# Altium footprint library SCMR22L105SRBB0.PcbLib: 1 footprints
Each footprint in its own frame and in the unit in brackets; x right, y up, seen from the top. Pads: shape width x height; smd on the part's side, far side on the other; paste and mask are expansions set on the pad; w line width, h text height; cw(c..) or ccw(c..) is an arc to the next point about the centre after c.
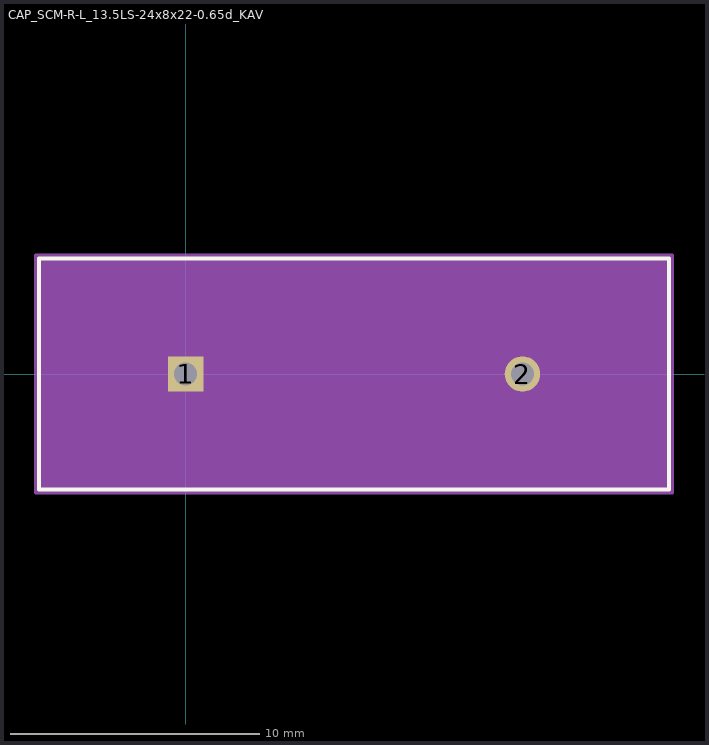
[diagram p0: the footprint, top view; thin cyan lines are the x and y axes]

## CAP_SCM-R-L_13.5LS-24x8x22-0.65d_KAV [mil]
pads (2):
  rect 56x56 / inner round 60 / far side rect 56x56 hole 36 paste-28 mask+0: 1(0,0)
  round 56 / inner round 60 / far side round 56 hole 36 paste-28 mask+0: 2(531.5,0)
Top Overlay:
  lines w6: -231.25,-182 762.75,-182 762.75,182 -231.25,182 -231.25,-182
Mechanical 13:
  circle w0: c-206.25,0 r0
  lines w1: -226.25,-177 757.75,-177 757.75,177 -226.25,177 -226.25,-177
Mechanical 15:
  region: 767.75,-187 -236.25,-187 -236.25,187 767.75,187
  lines w6: -236.25,-187 -236.25,187 767.75,187 767.75,-187 -236.25,-187
3D body "CAP_SCM-R-L_135LS-24x8x22-065d_KAV.step": height 945, standoff -177.99, extent -226.26,-177.01 757.76,177.01